# EAGLE library part LD6806F/18H (library NXP)
Ultra low-dropout regulator
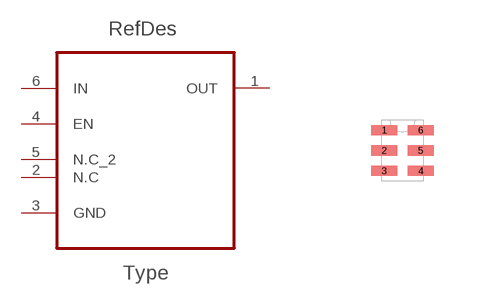
[diagram p1: symbol with the pads of SON50P100X145X50-6N; footprint SON50P100X145X50-6N]

Designator prefix U

## LD6806F/18H (DESCRIPTION: Ultra low-dropout regulator; MPN: LD6806F/18H; OC_FARNELL: 2057254; OC_NEWARK: 64T3338; PACKAGE: SON-6; SUPPLIER: NXP)  [SON50P100X145X50-6N]
1  OUT  out
2  N.C  nc
3  GND  pas
4  EN  in
5  N.C_2  nc
6  IN  in

## Footprint SON50P100X145X50-6N (pad centres in mm)
smd 0.66 x 0.254: 1 -0.457,0.508; 2 -0.457,0; 3 -0.457,-0.508; 4 0.457,-0.508; 5 0.457,0; 6 0.457,0.508